# Altium footprint library Ultrasound.PcbLib: 29 footprints (part 1 of 2)
Each footprint in its own frame and in the unit in brackets; x right, y up, seen from the top. Pads: shape width x height; smd on the part's side, far side on the other; paste and mask are expansions set on the pad; w line width, h text height; cw(c..) or ccw(c..) is an arc to the next point about the centre after c.
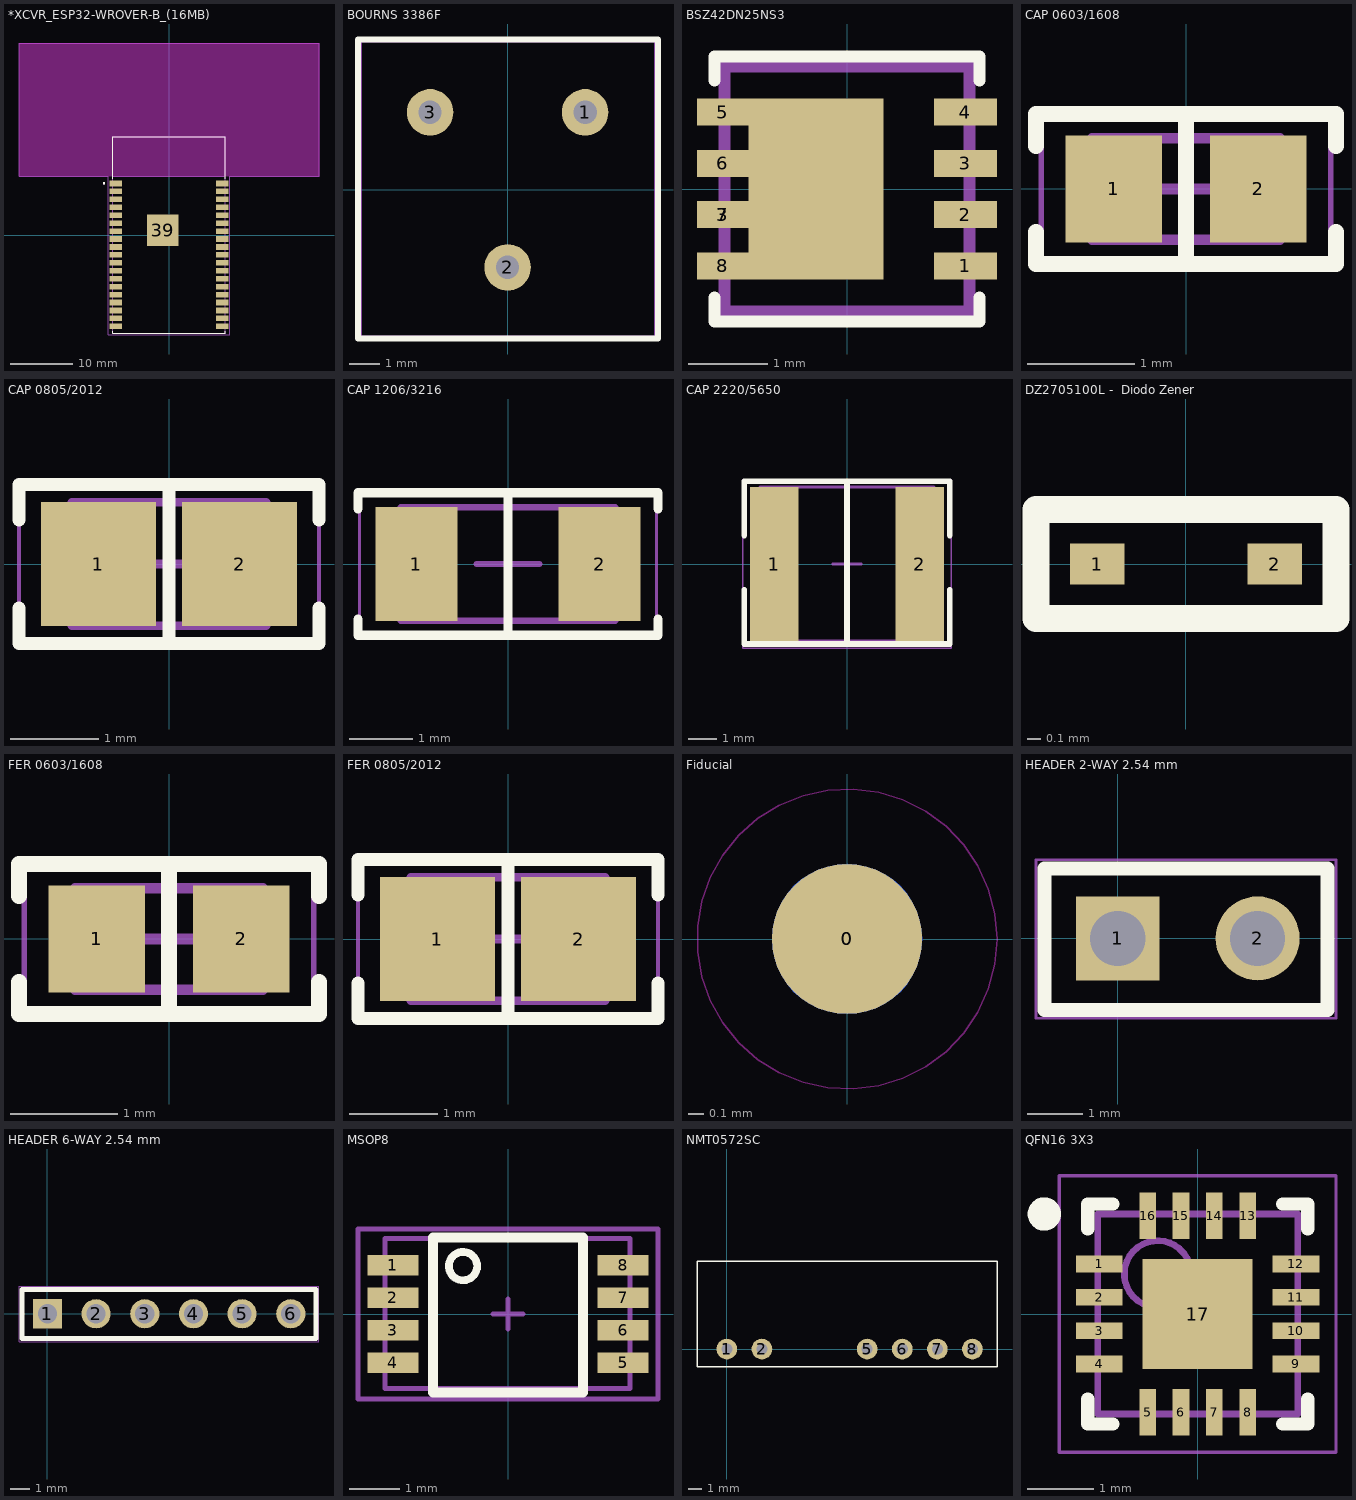
[diagram p0: the footprints below, top view; thin cyan lines are the x and y axes]

## *XCVR_ESP32-WROVER-B_(16MB) [mm]
pads (39):
  rect 2x0.9 smd: 1(-8.5,8.26) 2(-8.5,6.99) 3(-8.5,5.72) 4(-8.5,4.45) 5(-8.5,3.18) 6(-8.5,1.91) 7(-8.5,0.64) 8(-8.5,-0.63) 9(-8.5,-1.9) 10(-8.5,-3.17) 11(-8.5,-4.44) 12(-8.5,-5.71) 13(-8.5,-6.98) 14(-8.5,-8.25) 15(-8.5,-9.52) 16(-8.5,-10.79) 17(-8.5,-12.06) 18(-8.5,-13.33) 19(-8.5,-14.6) 20(8.5,-14.6) 21(8.5,-13.33) 22(8.5,-12.06) 23(8.5,-10.79) 24(8.5,-9.52) 25(8.5,-8.25) 26(8.5,-6.98) 27(8.5,-5.71) 28(8.5,-4.44) 29(8.5,-3.17) 30(8.5,-1.9) 31(8.5,-0.63) 32(8.5,0.64) 33(8.5,1.91) 34(8.5,3.18) 35(8.5,4.45) 36(8.5,5.72) 37(8.5,6.99) 38(8.5,8.26)
  rect 5x5 smd: 39(-1,0.76)
Top Overlay:
  circle w0.2: c-10.4,8.3 r0.1
  lines w0.127: -9,-15.36 -9,-15.7 9,-15.7 9,-15.36 ; -9,9.03 -9,15.7 9,15.7 9,9.03
Top Paste:
  region: -2.58,2.34 0.58,2.34 0.58,-0.82 -2.58,-0.82
Keep-Out Layer:
  region: -24,30.7 24,30.7 24,9.4 -24,9.4
  region: -24,30.7 24,30.7 24,9.4 -24,9.4
  region: -24,30.7 24,30.7 24,9.4 -24,9.4
  region: -24,30.7 24,30.7 24,9.4 -24,9.4
  region: -24,30.7 24,30.7 24,9.4 -24,9.4
  region: -24,30.7 24,30.7 24,9.4 -24,9.4
Mechanical 13:
  circle w0.2: c-10.4,8.3 r0.1
  circle w0.2: c-10.4,8.3 r0.1
  lines w0.127: -9,-15.7 9,-15.7 ; -9,-15.7 -9,9.4 ; -9,-15.7 9,-15.7 ; -9,-15.7 -9,9.4 ; -9,9.4 9,9.4 ; -9,9.4 -9,15.7 ; -9,9.4 9,9.4 ; -9,9.4 -9,15.7 ; -9,15.7 9,15.7 ; -9,15.7 9,15.7 ; 9,-15.7 9,9.4 ; 9,-15.7 9,9.4 ; 9,9.4 9,15.7 ; 9,9.4 9,15.7
  text "ANTENNA" at -3.7,11.65 h1.88
  text "ANTENNA" at -3.7,11.65 h1.88
Mechanical 15:
  lines w0.05: -24,9.4 -24,30.7 24,30.7 24,9.4 9.75,9.4 9.75,-15.95 -9.75,-15.95 -9.75,9.4 -24,9.4
3D body "ESP32-WROVER-B (16MB)--3DModel-STEP-1.STEP": height 3.4, standoff 0, extent -8.746,-15.7 9.254,15.7

## BOURNS 3386F [mil]
pads (3):
  round 60 hole 30: 1(100,100) 2(0,-100) 3(-100,100)
Top Overlay:
  lines w7.87: -193,-191.93 194,-191.93 194,194 -193,194 -193,-191.93
Mechanical 15:
  lines w1.97: -189,-189 190,-189 190,191 -189,191 -189,-189
3D body "3386f-1-204.stp": height 196.85, standoff -233.15, extent -188,-187.5 189,189.5

## BSZ42DN25NS3 [mm]
pads (10):
  rect 0.8x0.34 smd: 1(1.5,-0.975) 2(1.5,-0.325) 3(1.5,0.325) 4(1.5,0.975)
  rect 0.65x0.34 on Top Paste: 3(-1.575,-0.325)
  rect 0.65x0.34 smd: 5(-1.575,0.975) 6(-1.575,0.325) 7(-1.575,-0.325) 8(-1.575,-0.975)
  rect 1.71x2.29 smd: ""(-0.395,0)
Top Overlay:
  lines w0.152: -1.676,-1.375 -1.676,-1.676 1.676,-1.676 1.676,-1.375 ; -1.676,1.375 -1.676,1.676 1.676,1.676 1.676,1.375
Mechanical 13:
  lines w0.152: -1.549,-1.549 -1.549,1.549 -0.305,1.549 0.305,1.549 1.549,1.549 1.549,-1.549 -1.549,-1.549
3D body "Mosfet-DFN8_3x3.STEP": height 0.8, standoff 0, extent -1.6,-1.55 1.6,1.55

## CAP 0603/1608 [mm] "Chip Capacitor, 2-Leads, Body 1.60x0.80mm, IPC Medium Density"
height 0.89
pads (2):
  rect 0.9x1 smd: 1(-0.675,0) 2(0.675,0)
Top Overlay:
  lines w0.15: -1.4,-0.4 -1.4,-0.7 1.4,-0.7 1.4,-0.4 ; -1.4,0.4 -1.4,0.7 1.4,0.7 1.4,0.4 ; 0,-0.7 0,0.7
Mechanical 13:
  lines w0.1: -0.875,-0.475 -0.875,0.475 0.875,0.475 0.875,-0.475 -0.875,-0.475
Mechanical 15:
  lines w0.05: -1.35,-0.75 -1.35,0.75 1.35,0.75 1.35,-0.75 -1.35,-0.75
  lines w0.1: -0.475,0 0.475,0 ; 0,-0.475 0,0.475
3D body "0603 cap.STEP": height 0.82, standoff 0, extent -0.8,-0.412 0.8,0.412

## CAP 0805/2012 [mm] "Chip Capacitor, 2-Leads, Body 2.00x1.20mm, IPC Medium Density"
height 1.15
pads (2):
  rect 1.3x1.4 smd: 1(-0.8,0) 2(0.8,0)
Top Overlay:
  lines w0.15: -1.7,-0.5 -1.7,-0.9 1.7,-0.9 1.7,-0.5 ; -1.7,0.5 -1.7,0.9 1.7,0.9 1.7,0.5 ; 0,-0.9 0,0.9
Mechanical 13:
  lines w0.1: -1.1,-0.7 -1.1,0.7 1.1,0.7 1.1,-0.7 -1.1,-0.7
Mechanical 15:
  lines w0.05: -1.7,-0.95 -1.7,0.95 1.7,0.95 1.7,-0.95 -1.7,-0.95
  lines w0.1: -0.5,0 0.5,0 ; 0,-0.5 0,0.5
3D body "0805 cap.STEP": height 1.26, standoff -0.02, extent -1,-0.637 1,0.637

## CAP 1206/3216 [mm] "Chip Capacitor, 2-Leads, Body 3.25x1.60mm, IPC Medium Density"
height 1.2
pads (2):
  rect 1.3x1.8 smd: 1(-1.45,0) 2(1.45,0)
Top Overlay:
  lines w0.15: -2.375,-0.875 -2.375,-1.125 2.375,-1.125 2.375,-0.875 ; -2.375,0.875 -2.375,1.125 2.375,1.125 2.375,0.875 ; 0,-1.125 0,1.125
Mechanical 13:
  lines w0.1: -1.7,-0.9 1.7,-0.9 1.7,0.9 -1.7,0.9 -1.7,-0.9
Mechanical 15:
  lines w0.05: -2.35,-1.15 2.35,-1.15 2.35,1.15 -2.35,1.15 -2.35,-1.15
  lines w0.1: -0.5,0 0.5,0 ; 0,-0.5 0,0.5
3D body "CAP 1206-1.2mm.STEP": height 1.2, standoff 0, extent -1.6,-0.8 1.6,0.8

## CAP 2220/5650 [mm] "Chip Capacitor, 2-Leads, Body 5.70x5.00mm, IPC Medium Density"
height 2
pads (2):
  rect 1.7x5.4 smd: 1(-2.55,0) 2(2.55,0)
Top Overlay:
  lines w0.2: -3.6,-0.9 -3.6,-2.8 3.6,-2.8 3.6,-0.9 ; -3.6,1 -3.6,2.9 3.6,2.9 3.6,1 ; 0,-2.8 0,2.9
Mechanical 13:
  lines w0.1: -3.05,-2.7 -3.05,2.7 3.05,2.7 3.05,-2.7 -3.05,-2.7
Mechanical 15:
  lines w0.05: -3.65,-2.95 -3.65,2.95 3.65,2.95 3.65,-2.95 -3.65,-2.95
  lines w0.1: -0.5,0 0.5,0 ; 0,-0.5 0,0.5
3D body "CAP 2020-2.0mm.STEP": height 2, standoff 0, extent -2.85,-2.5 2.85,2.5

## DZ2705100L -  Diodo Zener [mm]
pads (2):
  rect 0.4x0.3 smd: 1(-0.65,0) 2(0.65,0)
Top Overlay:
  lines w0.2: -1.1,-0.4 1.1,-0.4 1.1,0.4 -1.1,0.4 -1.1,0 -1.1,-0.4

## FER 0603/1608 [mm] "Chip Ferrite, 2-Leads, Body 1.60x0.80mm, IPC Medium Density"
height 0.89
pads (2):
  rect 0.9x1 smd: 1(-0.675,0) 2(0.675,0)
Top Overlay:
  lines w0.15: -1.4,-0.4 -1.4,-0.7 1.4,-0.7 1.4,-0.4 ; -1.4,0.4 -1.4,0.7 1.4,0.7 1.4,0.4 ; 0,-0.7 0,0.7
Mechanical 13:
  lines w0.1: -0.875,-0.475 0.875,-0.475 0.875,0.475 -0.875,0.475 -0.875,-0.475
Mechanical 15:
  lines w0.05: -1.35,-0.75 1.35,-0.75 1.35,0.75 -1.35,0.75 -1.35,-0.75
  lines w0.1: -0.475,0 0.475,0 ; 0,-0.475 0,0.475
3D body "FER 0603.STEP": height 0.82, standoff 0, extent -0.8,-0.412 0.8,0.412

## FER 0805/2012 [mm] "Chip Ferrite, 2-Leads, Body 2.00x1.20mm, IPC Medium Density"
height 1.15
pads (2):
  rect 1.3x1.4 smd: 1(-0.8,0) 2(0.8,0)
Top Overlay:
  lines w0.15: -1.7,-0.5 -1.7,-0.9 1.7,-0.9 1.7,-0.5 ; -1.7,0.5 -1.7,0.9 1.7,0.9 1.7,0.5 ; 0,-0.9 0,0.9
Mechanical 13:
  lines w0.1: -1.1,-0.7 1.1,-0.7 1.1,0.7 -1.1,0.7 -1.1,-0.7
Mechanical 15:
  lines w0.05: -1.7,-0.95 1.7,-0.95 1.7,0.95 -1.7,0.95 -1.7,-0.95
  lines w0.1: -0.5,0 0.5,0 ; 0,-0.5 0,0.5
3D body "FER 0805.STEP": height 1.26, standoff -0.02, extent -1,-0.637 1,0.637

## Fiducial [mm]
pads (2):
  round 1 smd paste-10 mask+0.5: 0(0,0)
  round 1 smd far side paste-10 mask+0.5: 0(0,0)
Keep-Out Layer:
  circle w0.01: c0,0 r1

## HEADER 2-WAY 2.54 mm [mil]
pads (2):
  rect 60x60 hole 39.37: 1(0,0)
  round 60 hole 39.37: 2(100,0)
Top Overlay:
  lines w10: -52.56,-51.18 -52.56,50.01 150,50.01 150,-51.18 -52.56,-51.18
Mechanical 13:
  lines w3.94: -51.97,-49.99 150,-49.99 150,50.01 -51.97,50.01 -51.97,-49.99
Mechanical 15:
  lines w1.97: -58.46,-57.09 156,-57.09 156,56.1 -58.46,56.1 -58.46,-57.09
3D body "65777.stp": height 337.22, standoff -117.11, extent -51,-50 149,50

## HEADER 6-WAY 2.54 mm [mil]
pads (6):
  rect 60x60 hole 39.37: 1(0,0)
  round 60 hole 39.37: 2(100,0) 3(200,0) 4(300,0) 5(400,0) 6(500,0)
Top Overlay:
  lines w10: -52.56,-51.18 552,-51.18 552,50.01 -52.56,50.01 -52.56,-51.18
Mechanical 13:
  lines w3.94: -51.97,-49.99 -51.97,50.01 552,50.01 552,-49.99 -51.97,-49.99
Mechanical 15:
  lines w1.97: -58.46,-57.09 -58.46,56.1 558,56.1 558,-57.09 -58.46,-57.09
3D body "65787.stp": height 337.22, standoff -117.11, extent -49.97,-49.99 550.03,50.01
3D body: height 50, standoff -50, extent 373,-110 373,-110

## MSOP8 [mm]
pads (8):
  rect 1.02x0.41 smd: 1(-2.3,0.975) 2(-2.3,0.325) 3(-2.3,-0.325) 4(-2.3,-0.975) 5(2.3,-0.975) 6(2.3,-0.325) 7(2.3,0.325) 8(2.3,0.975)
Top Overlay:
  circle w0.154: c-0.9,0.958 r0.283
  lines w0.2: -1.5,-1.565 1.5,-1.565 1.5,1.535 -1.5,1.535 -1.5,-1.565
Mechanical 13:
  lines w0.102: -2.464,-1.49 2.436,-1.49 2.436,1.51 -2.464,1.51 -2.464,-1.49
Mechanical 15:
  lines w0.102: -0.3,0 0.3,0 ; 0,-0.3 0,0.3 ; -3,-1.7 3,-1.7 3,1.7 -3,1.7 -3,-1.7
3D body "MSOP-8.step": height 1.15, standoff 0, extent -2.464,-1.49 2.436,1.51

## NMT0572SC [mm]
height 12
pads (6):
  round 1.5 hole 0.8: 1(0,0) 2(2.54,0) 5(10.16,0) 6(12.7,0) 7(15.24,0) 8(17.78,0)
Top Overlay:
  lines w0.1: -2.159,-1.27 -2.159,6.35 19.558,6.35 19.558,-1.27 -2.159,-1.27
3D body: height 11.2, standoff 0.1, extent -2.159,-1.27 19.558,6.35

## QFN16 3X3 [mm]
height 0.9
pads (17):
  rect 0.7x0.25 smd: 1(-1.475,0.75) 2(-1.475,0.25) 3(-1.475,-0.25) 4(-1.475,-0.75) 9(1.475,-0.75) 10(1.475,-0.25) 11(1.475,0.25) 12(1.475,0.75)
  rect 0.25x0.7 smd: 5(-0.75,-1.475) 6(-0.25,-1.475) 7(0.25,-1.475) 8(0.75,-1.475) 13(0.75,1.475) 14(0.25,1.475) 15(-0.25,1.475) 16(-0.75,1.475)
  rect 1.65x1.65 smd: 17(0,0)
Top Overlay:
  circle w0.25: c-2.3,1.5 r0.125
  lines w0.2: -1.65,-1.275 -1.65,-1.65 -1.275,-1.65 ; -1.65,1.275 -1.65,1.65 -1.275,1.65 ; 1.275,-1.65 1.65,-1.65 1.65,-1.275 ; 1.275,1.65 1.65,1.65 1.65,1.275
Mechanical 13:
  circle w0.1: c-0.6,0.6 r0.5
  lines w0.1: -1.5,-1.5 1.5,-1.5 1.5,1.5 -1.5,1.5 -1.5,-1.5
Mechanical 15:
  lines w0.05: -2.075,-2.075 2.075,-2.075 2.075,2.075 -2.075,2.075 -2.075,-2.075
  lines w0.1: -0.5,0 0.5,0 ; 0,-0.5 0,0.5
3D body "QFN-16.STEP": height 0.9, standoff 0, extent -1.501,-1.501 1.501,1.501